# EAGLE library part DREH1X12 (library Schalter_V12)
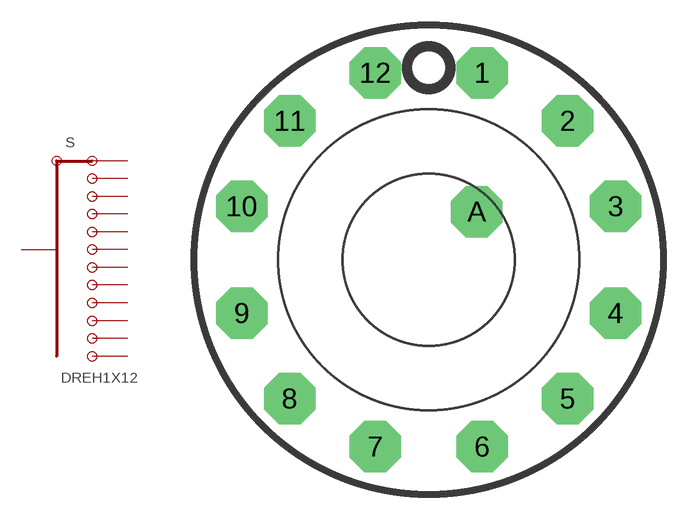
[diagram p0: symbol with the pads of DREH1X12; footprint DREH1X12]

Designator prefix S

## DREH1X12  [DREH1X12]
1  1
2  2
3  3
4  4
5  5
6  6
7  7
8  8
9  9
10  10
11  11
12  12
A  A

## Footprint DREH1X12 (pad centres in mm)
drill 0.813 pad 3.048 octagon: 1 3.175,11.113; 2 8.255,8.255; 3 11.113,3.175; 4 11.113,-3.175; 5 8.255,-8.255; 6 3.175,-11.113; 7 -3.175,-11.113; 8 -8.255,-8.255; 9 -11.113,-3.175; 10 -11.113,3.175; 11 -8.255,8.255; 12 -3.175,11.113; A 2.857,2.857